# Altium schematic symbol library sample.SchLib: 2 symbols
Pins are listed as number, name and electrical type; pins without a type are passive.

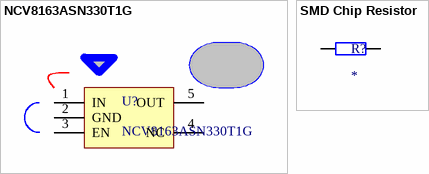
[diagram p0: symbols NCV8163ASN330T1G to SMD Chip Resistor]

## NCV8163ASN330T1G
designator U?
3V3 250 mA LDO; Manufacturer: Onsemi; Value: 3V3, 250mA; Part Number: NCV8163ASN330T1G
footprint NCV8163ASN330T1G_TSOP5 (TSOP, 5-Leads, Body 3,00x1,50mm, Pitch 0,95mm, IPC Medium Density)
pins: 1 IN, 2 GND, 3 EN, 4 NC, 5 OUT

## SMD Chip Resistor
designator R?
generic SMD chip resistor; Value: *; Part Number: *; Manufacturer: *
footprint GENERIC_CHIP_RES_0402_IPC_HIGH_DENSITY (Generic Chip Resistor, 0402, 1.00x0.50mm, IPC High Density)
footprint GENERIC_CHIP_RES_0402_IPC_LOW_DENSITY (Generic Chip Resistor, 0402, 1.00x0.50mm, IPC Low Density)
footprint GENERIC_CHIP_RES_0402_IPC_MEDIUM_DENSITY (Generic Chip Resistor, 0402, 1.00x0.50mm, IPC Medium Density)
footprint GENERIC_CHIP_RES_0603_IPC_HIGH_DENSITY (Generic Chip Resistor, 0603, 1.60x0.80mm, IPC High Density)
footprint GENERIC_CHIP_RES_0603_IPC_LOW_DENSITY (Generic Chip Resistor, 0603, 1.60x0.80mm, IPC Low Density)
footprint GENERIC_CHIP_RES_0603_IPC_MEDIUM_DENSITY (Generic Chip Resistor, 0603, 1.60x0.80mm, IPC Medium Density)
footprint GENERIC_CHIP_RES_0805_IPC_HIGH_DENSITY (Generic Chip Resistor, 0805, 2.00x1.25mm, IPC High Density)
footprint GENERIC_CHIP_RES_0805_IPC_LOW_DENSITY (Generic Chip Resistor, 0805, 2.00x1.25mm, IPC Low Density)
footprint GENERIC_CHIP_RES_0805_IPC_MEDIUM_DENSITY (Generic Chip Resistor, 0805, 2.00x1.25mm, IPC Medium Density)
footprint GENERIC_CHIP_RES_1206_IPC_HIGH_DENSITY (Generic Chip Resistor, 1206, 3.20x1.60mm, IPC High Density)
footprint GENERIC_CHIP_RES_1206_IPC_LOW_DENSITY (Generic Chip Resistor, 1206, 3.20x1.60mm, IPC Low Density)
footprint GENERIC_CHIP_RES_1206_IPC_MEDIUM_DENSITY (Generic Chip Resistor, 1206, 3.20x1.60mm, IPC Medium Density)
pins: 1, 2